# EAGLE library part OS202013MT5QN1 (library jason_eagle6)
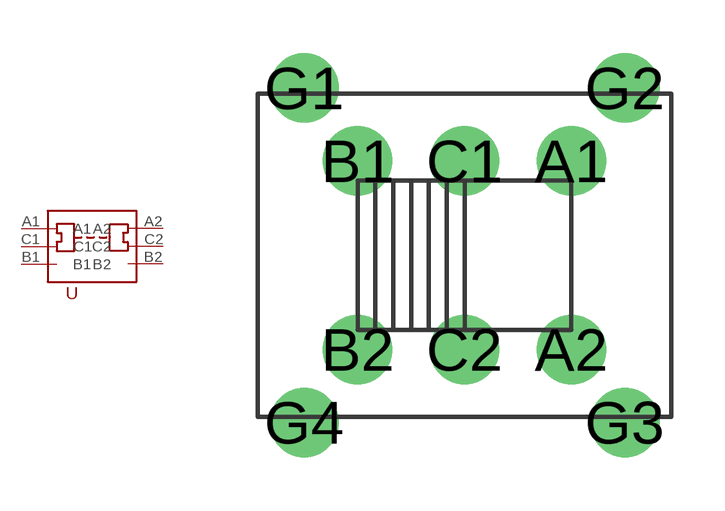
[diagram p55: symbol with the pads of OS202013MT5QN1; footprint OS202013MT5QN1]

Designator prefix -

## OS202013MT5QN1  [OS202013MT5QN1]
A1  A1
A2  A2
B1  B1
B2  B2
C1  C1
C2  C2

## Footprint OS202013MT5QN1 (pad centres in mm)
drill 1.3: A1 3,2.65; A2 3,-2.65; B1 -3,2.65; B2 -3,-2.65; C1 0,2.65; C2 0,-2.65; G1 -4.5,4.7; G2 4.5,4.7; G3 4.5,-4.7; G4 -4.5,-4.7